# EAGLE library part 74*113 (library 74xx-eu)
Dual J-K negative edge triggered FLIP FLOP, preset
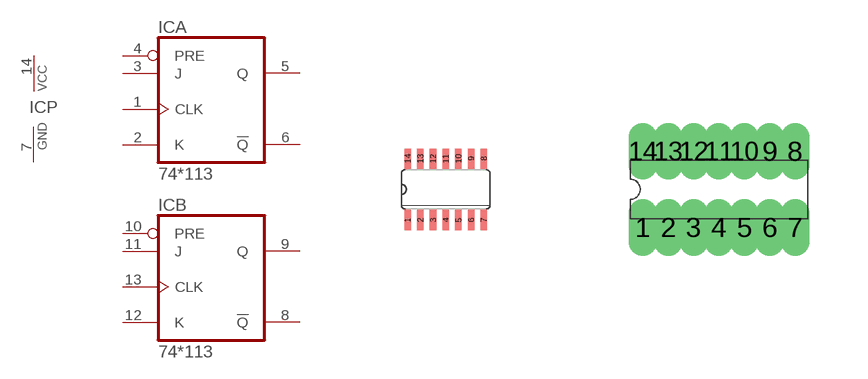
[diagram p75: symbol with the pads of SO14; footprints SO14, DIL14]

Designator prefix IC; gates A=74113 B=74113 P=PWRN

## 74113D, 74HC113D, 74HCT113D, 74LS113D, 74S113D  [SO14]
1  A:CLK  in
2  A:K  in
3  A:J  in
4  A:PRE  in
5  A:Q  out
6  A:!Q  out
7  P:GND  pwr
8  B:!Q  out
9  B:Q  out
10  B:PRE  in
11  B:J  in
12  B:K  in
13  B:CLK  in
14  P:VCC  pwr

## 74113N, 74HC113N, 74HCT113N, 74LS113N, 74S113N  [DIL14]
Pads as for SO14

## Footprint SO14 (pad centres in mm)
Small Outline package 150 mil
smd 0.165 x 0.508: 1 -0.953,-0.768; 2 -0.635,-0.768; 3 -0.318,-0.768; 4 0,-0.768; 5 0.318,-0.768; 6 0.635,-0.768; 7 0.953,-0.768; 8 0.953,0.768; 9 0.635,0.768; 10 0.318,0.768; 11 0,0.768; 12 -0.318,0.768; 13 -0.635,0.768; 14 -0.953,0.768

## Footprint DIL14 (pad centres in mm)
Dual In Line Package
drill 0.203 long: 1 -1.905,-0.953; 2 -1.27,-0.953; 3 -0.635,-0.953; 4 0,-0.953; 5 0.635,-0.953; 6 1.27,-0.953; 7 1.905,-0.953; 8 1.905,0.953; 9 1.27,0.953; 10 0.635,0.953; 11 0,0.953; 12 -0.635,0.953; 13 -1.27,0.953; 14 -1.905,0.953